# EAGLE library part P1AM-PROTO-BLANK (library P1AM-PROTO-BLANK)
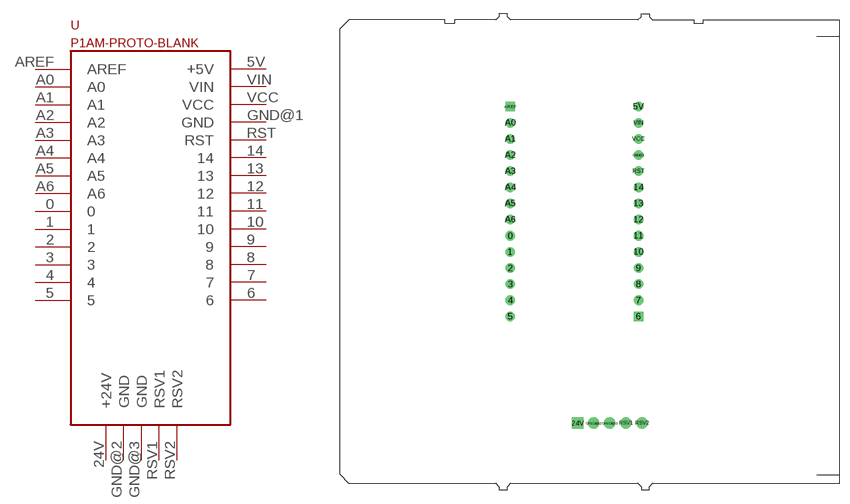
[diagram p0: symbol with the pads of P1AM-PROTO-BLANK; footprint P1AM-PROTO-BLANK]

Designator prefix -

## P1AM-PROTO-BLANK  [P1AM-PROTO-BLANK]
0  0
1  1
2  2
3  3
4  4
5  5
5V  +5V
6  6
7  7
8  8
9  9
10  10
11  11
12  12
13  13
14  14
24V  +24V
A0  A0
A1  A1
A2  A2
A3  A3
A4  A4
A5  A5
A6  A6
AREF  AREF
GND@1  GND
GND@2  GND
GND@3  GND
RST  RST
RSV1  RSV1
RSV2  RSV2
VCC  VCC
VIN  VIN

## Footprint P1AM-PROTO-BLANK (pad centres in mm)
drill 1: 0 26.67,38.735; 1 26.67,36.195; 2 26.67,33.655; 3 26.67,31.115; 4 26.67,28.575; 5 26.67,26.035; 5V 46.863,59.055; 7 46.863,28.575; 8 46.863,31.115; 9 46.863,33.655; 10 46.863,36.195; 11 46.863,38.735; 12 46.863,41.275; 13 46.863,43.815; 14 46.863,46.355; A0 26.67,56.515; A1 26.67,53.975; A2 26.67,51.435; A3 26.67,48.895; A4 26.67,46.355; A5 26.67,43.815; A6 26.67,41.275; GND@1 46.863,51.435; RST 46.863,48.895; VCC 46.863,53.975; VIN 46.863,56.515
drill 1 square: 6 46.863,26.035; AREF 26.67,59.055
drill 1 pad 1.778 square: 24V 37.262,9.22
drill 1 pad 1.778: GND@2 39.802,9.22; GND@3 42.342,9.22; RSV1 44.882,9.22; RSV2 47.422,9.22